# EAGLE library part LMC555 (library activelib)
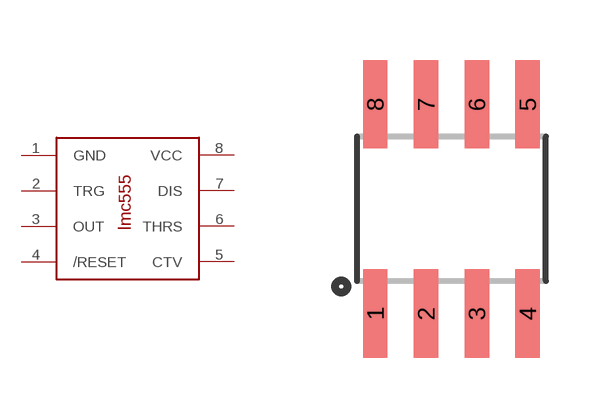
[diagram p0: symbol with the pads of LMC555; footprint LMC555]

Designator prefix -

## LMC555  [LMC555]
1  GND
2  TRG
3  OUT
4  /RESET
5  CTV
6  THRS
7  DIS
8  VCC

## Footprint LMC555 (pad centres in mm)
smd 0.61 x 2.21: 1 -1.905,-2.616; 2 -0.635,-2.616; 3 0.635,-2.616; 4 1.905,-2.616; 5 1.905,2.616; 6 0.635,2.616; 7 -0.635,2.616; 8 -1.905,2.616